# EAGLE library part WE-RJ45_7498210002 (library WE-RJ45_LAN)
WE-RJ45 LAN Transformer Characteristics RJ45 Connector with integrated transformer / common mode choke Power over Ethernet up to 50 Watt and speeds up to 10 Gbit/s Available in SMD, THT and THT with USB Compliant with standards: IEEE 802.3u, IEEE 802.3ab, IEEE 802.3af, IEEE 802.3at, IEEE 802.3an and upcoming IEE 802.3bt Improved Common Mode Rejection (CMRR) due to additional NiZn cores Applications Suitable for industrial temperatures from –40 °C up to +85 °C Compatible to Industrial Ethernet systems like EtherCAT or Profinet Compliant with most IC’s for Ethernet applications such as Microchip, Texas Instruments, Broadcom, Linear Technology Hubs, Routers, Switches, IP cameras, IoT applications Details see: www.we-online.com/components/products/WE-LAN-RJ45 Updated by Ella Wu 2025-08-28 2025 (C) Würth Elektronik
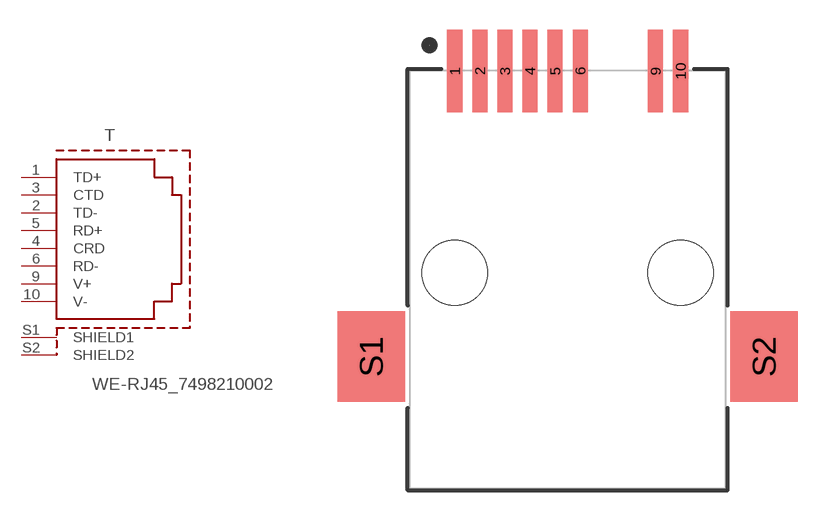
[diagram p85: symbol with the pads of 7498210002; footprint 7498210002]

Designator prefix T

## WE-RJ45_7498210002 (DATA-RATE: 10/100BASE-T; DATASHEET: https://www.we-online.com/redexpert/spec/7498210002?ae; IMPROVED-CMRR: No; LED: -; MOUNT: SMT; OPERATING-TEMPERATURE: -40 °C up to +85 °C; PART-NUMBER: 7498210002; PHY-CHIP-MODE: current & voltage; POE: PoE+; PORTS: 1; SHIELD-TABS: No; TAB: Down; USB: No; VALUE: 7498210002)  [7498210002]
1  TD+  pas
2  TD-  pas
3  CTD  pas
4  CRD  pas
5  RD+  pas
6  RD-  pas
9  V+  pas
10  V-  pas
S1  SHIELD1  pas
S2  SHIELD2  pas

## Footprint 7498210002 (pad centres in mm)
WE-RJ45 LAN Transformer 10/100BASE-T, Ports:1, Tab:Down
smd 0.76 x 4.18: 1 -5.715,10.2; 2 -4.445,10.2; 3 -3.175,10.2; 4 -1.905,10.2; 5 -0.635,10.2; 6 0.635,10.2; 9 4.445,10.2; 10 5.715,10.2
smd 3.42 x 4.58: S1 -9.94,-4.25; S2 9.94,-4.25
hole 3.3 at -5.715,0
hole 3.3 at 5.715,0